# Altium footprint library LM4950 Stereo 3W Audio Amplifier.PcbLib: 3 footprints
Each footprint in its own frame and in the unit in brackets; x right, y up, seen from the top. Pads: shape width x height; smd on the part's side, far side on the other; paste and mask are expansions set on the pad; w line width, h text height; cw(c..) or ccw(c..) is an arc to the next point about the centre after c.
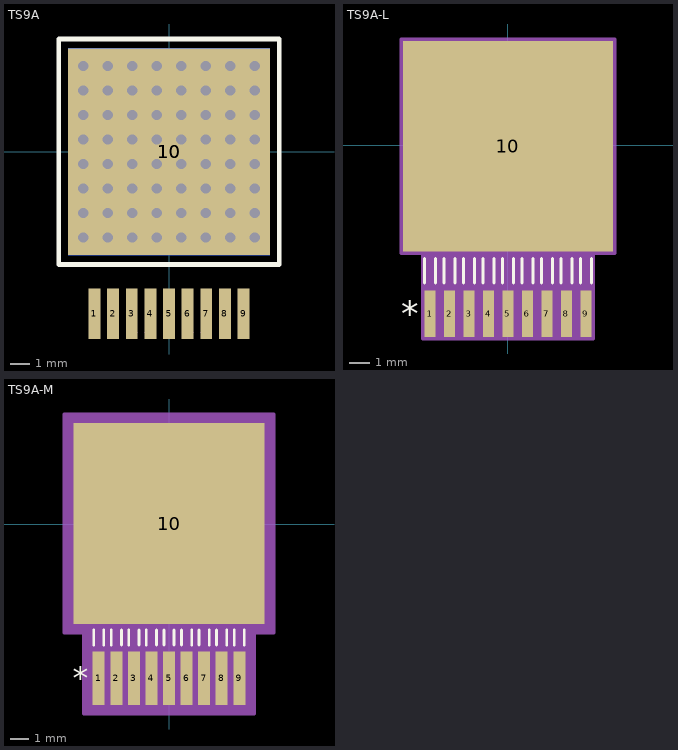
[diagram p0: the footprints below, top view; thin cyan lines are the x and y axes]

## TS9A [mil]
pads (11):
  rect 24x103 smd paste+0 mask+0: 1(-152,-330.5) 2(-114,-330.5) 3(-76,-330.5) 4(-38,-330.5) 5(0,-330.5) 6(38,-330.5) 7(76,-330.5) 8(114,-330.5) 9(152,-330.5)
  rect 412x422 smd paste+0 mask+0: 10(0,0)
  rect 412x422 smd far side paste+0 mask+0: 10(0,0)
via 125,175 diameter 37.5 hole 20.98
via 25,175 diameter 37.5 hole 20.98
via 75,175 diameter 37.5 hole 20.98
via -125,175 diameter 37.5 hole 20.98
via -175,175 diameter 37.5 hole 20.98
via -75,175 diameter 37.5 hole 20.98
via -25,175 diameter 37.5 hole 20.98
via -25,125 diameter 37.5 hole 20.98
via -75,125 diameter 37.5 hole 20.98
via -175,125 diameter 37.5 hole 20.98
via -125,125 diameter 37.5 hole 20.98
via 75,125 diameter 37.5 hole 20.98
via 25,125 diameter 37.5 hole 20.98
via 125,125 diameter 37.5 hole 20.98
via 125,25 diameter 37.5 hole 20.98
via 25,25 diameter 37.5 hole 20.98
via 75,25 diameter 37.5 hole 20.98
via -125,25 diameter 37.5 hole 20.98
via -175,25 diameter 37.5 hole 20.98
via -75,25 diameter 37.5 hole 20.98
via -25,25 diameter 37.5 hole 20.98
via -25,75 diameter 37.5 hole 20.98
via -75,75 diameter 37.5 hole 20.98
via -175,75 diameter 37.5 hole 20.98
via -125,75 diameter 37.5 hole 20.98
via 75,75 diameter 37.5 hole 20.98
via 25,75 diameter 37.5 hole 20.98
via 125,75 diameter 37.5 hole 20.98
via 125,-75 diameter 37.5 hole 20.98
via 25,-75 diameter 37.5 hole 20.98
via 75,-75 diameter 37.5 hole 20.98
via -125,-75 diameter 37.5 hole 20.98
via -175,-75 diameter 37.5 hole 20.98
via -75,-75 diameter 37.5 hole 20.98
via -25,-75 diameter 37.5 hole 20.98
via -25,-25 diameter 37.5 hole 20.98
via -75,-25 diameter 37.5 hole 20.98
via -175,-25 diameter 37.5 hole 20.98
via -125,-25 diameter 37.5 hole 20.98
via 75,-25 diameter 37.5 hole 20.98
via 25,-25 diameter 37.5 hole 20.98
via 125,-25 diameter 37.5 hole 20.98
via 125,-175 diameter 37.5 hole 20.98
via 25,-175 diameter 37.5 hole 20.98
via 75,-175 diameter 37.5 hole 20.98
via -125,-175 diameter 37.5 hole 20.98
via -175,-175 diameter 37.5 hole 20.98
via -75,-175 diameter 37.5 hole 20.98
via -25,-175 diameter 37.5 hole 20.98
via -25,-125 diameter 37.5 hole 20.98
via -75,-125 diameter 37.5 hole 20.98
via -175,-125 diameter 37.5 hole 20.98
via -125,-125 diameter 37.5 hole 20.98
via 75,-125 diameter 37.5 hole 20.98
via 25,-125 diameter 37.5 hole 20.98
via 125,-125 diameter 37.5 hole 20.98
via 175,175 diameter 37.5 hole 20.98
via 175,125 diameter 37.5 hole 20.98
via 175,25 diameter 37.5 hole 20.98
via 175,75 diameter 37.5 hole 20.98
via 175,-75 diameter 37.5 hole 20.98
via 175,-25 diameter 37.5 hole 20.98
via 175,-175 diameter 37.5 hole 20.98
via 175,-125 diameter 37.5 hole 20.98
Top Overlay:
  lines w10: -225,-230 -225,230 225,230 225,-230 -225,-230
Mechanical 13:
  lines w1: -163,-368 -141,-368 ; -163,-197 -141,-197 ; -125,-368 -103,-368 ; -125,-197 -103,-197 ; -87,-368 -65,-368 ; -87,-197 -65,-197 ; -49,-368 -27,-368 ; -49,-197 -27,-197 ; -11,-368 11,-368 ; -11,-197 11,-197 ; 27,-368 49,-368 ; 27,-197 49,-197 ; 65,-368 87,-368 ; 65,-197 87,-197 ; 103,-368 125,-368 ; 103,-197 125,-197 ; 141,-368 163,-368 ; 141,-197 163,-197 ; -205,-197 205,-197 205,197 -205,197 -205,-197
  text "*" at -164.5,-212 h50
3D body "TS9A-M.step": height 188.11, standoff -2.01, extent -205,-309.48 205,162.1
3D body: height 10, standoff 0, extent 0,0 10,10

## TS9A-L [mil]
pads (10):
  rect 22x91 smd paste+0 mask+0: 1(-152,-328.5) 2(-114,-328.5) 3(-76,-328.5) 4(-38,-328.5) 5(0,-328.5) 6(38,-328.5) 7(76,-328.5) 8(114,-328.5) 9(152,-328.5)
  rect 410x410 smd paste+0 mask+0: 10(0,-2)
Top Overlay:
  lines w6: -163,-269 -163,-221 ; -141,-269 -141,-221 ; -125,-269 -125,-221 ; -103,-269 -103,-221 ; -87,-269 -87,-221 ; -65,-269 -65,-221 ; -49,-269 -49,-221 ; -27,-269 -27,-221 ; -11,-269 -11,-221 ; 11,-269 11,-221 ; 27,-269 27,-221 ; 49,-269 49,-221 ; 65,-269 65,-221 ; 87,-269 87,-221 ; 103,-269 103,-221 ; 125,-269 125,-221 ; 141,-269 141,-221 ; 163,-269 163,-221
  text "*" at -208.5,-353.5 h50
Mechanical 13:
  lines w1: -205,-197 205,-197 205,197 -205,197 -205,-197 ; -163,-368 -163,-197 -141,-197 -141,-368 -163,-368 ; -125,-368 -125,-197 -103,-197 -103,-368 -125,-368 ; -87,-368 -87,-197 -65,-197 -65,-368 -87,-368 ; -49,-368 -49,-197 -27,-197 -27,-368 -49,-368 ; -11,-368 -11,-197 11,-197 11,-368 -11,-368 ; 27,-368 27,-197 49,-197 49,-368 27,-368 ; 65,-368 65,-197 87,-197 87,-368 65,-368 ; 103,-368 103,-197 125,-197 125,-368 103,-368 ; 141,-368 141,-197 163,-197 163,-368 141,-368
  text "*" at -164.5,-212 h50
Mechanical 15:
  region: -167,-211 -209,-211 -209,207 209,207 209,-211 167,-211 167,-378 -167,-378
  lines w6: -209,-211 -209,207 209,207 209,-211 167,-211 167,-378 -167,-378 -167,-211 -209,-211
3D body: height 10, standoff 0, extent 0,0 10,10

## TS9A-M [mil]
pads (10):
  rect 26x115 smd paste+0 mask+0: 1(-152,-332.5) 2(-114,-332.5) 3(-76,-332.5) 4(-38,-332.5) 5(0,-332.5) 6(38,-332.5) 7(76,-332.5) 8(114,-332.5) 9(152,-332.5)
  rect 414x434 smd paste+0 mask+0: 10(0,2)
Top Overlay:
  lines w6: -163,-261 -163,-228.1 ; -141,-261 -141,-228.1 ; -125,-261 -125,-228.1 ; -103,-261 -103,-228.1 ; -87,-261 -87,-228.1 ; -65,-261 -65,-228.1 ; -49,-261 -49,-228.1 ; -27,-261 -27,-228.1 ; -11,-261 -11,-228.1 ; 11,-261 11,-228.1 ; 27,-261 27,-228.1 ; 49,-261 49,-228.1 ; 65,-261 65,-228.1 ; 87,-261 87,-228.1 ; 103,-261 103,-228.1 ; 125,-261 125,-228.1 ; 141,-261 141,-228.1 ; 163,-261 163,-228.1
  text "*" at -208.5,-357.5 h50
Mechanical 13:
  lines w1: -205,-197 205,-197 205,197 -205,197 -205,-197 ; -163,-368 -163,-197 -141,-197 -141,-368 -163,-368 ; -125,-368 -125,-197 -103,-197 -103,-368 -125,-368 ; -87,-368 -87,-197 -65,-197 -65,-368 -87,-368 ; -49,-368 -49,-197 -27,-197 -27,-368 -49,-368 ; -11,-368 -11,-197 11,-197 11,-368 -11,-368 ; 27,-368 27,-197 49,-197 49,-368 27,-368 ; 65,-368 65,-197 87,-197 87,-368 65,-368 ; 103,-368 103,-197 125,-197 125,-368 103,-368 ; 141,-368 141,-197 163,-197 163,-368 141,-368
  text "*" at -164.5,-212 h50
Mechanical 15:
  region: -185,-235 -227,-235 -227,239 227,239 227,-235 185,-235 185,-410 -185,-410
  lines w6: -227,-235 -227,239 227,239 227,-235 185,-235 185,-410 -185,-410 -185,-235 -227,-235
3D body: height 10, standoff 0, extent 0,0 10,10